# Altium footprint library ecoVENTV.PcbLib: 46 footprints (part 2 of 3)
Each footprint in its own frame and in the unit in brackets; x right, y up, seen from the top. Pads: shape width x height; smd on the part's side, far side on the other; paste and mask are expansions set on the pad; w line width, h text height; cw(c..) or ccw(c..) is an arc to the next point about the centre after c.
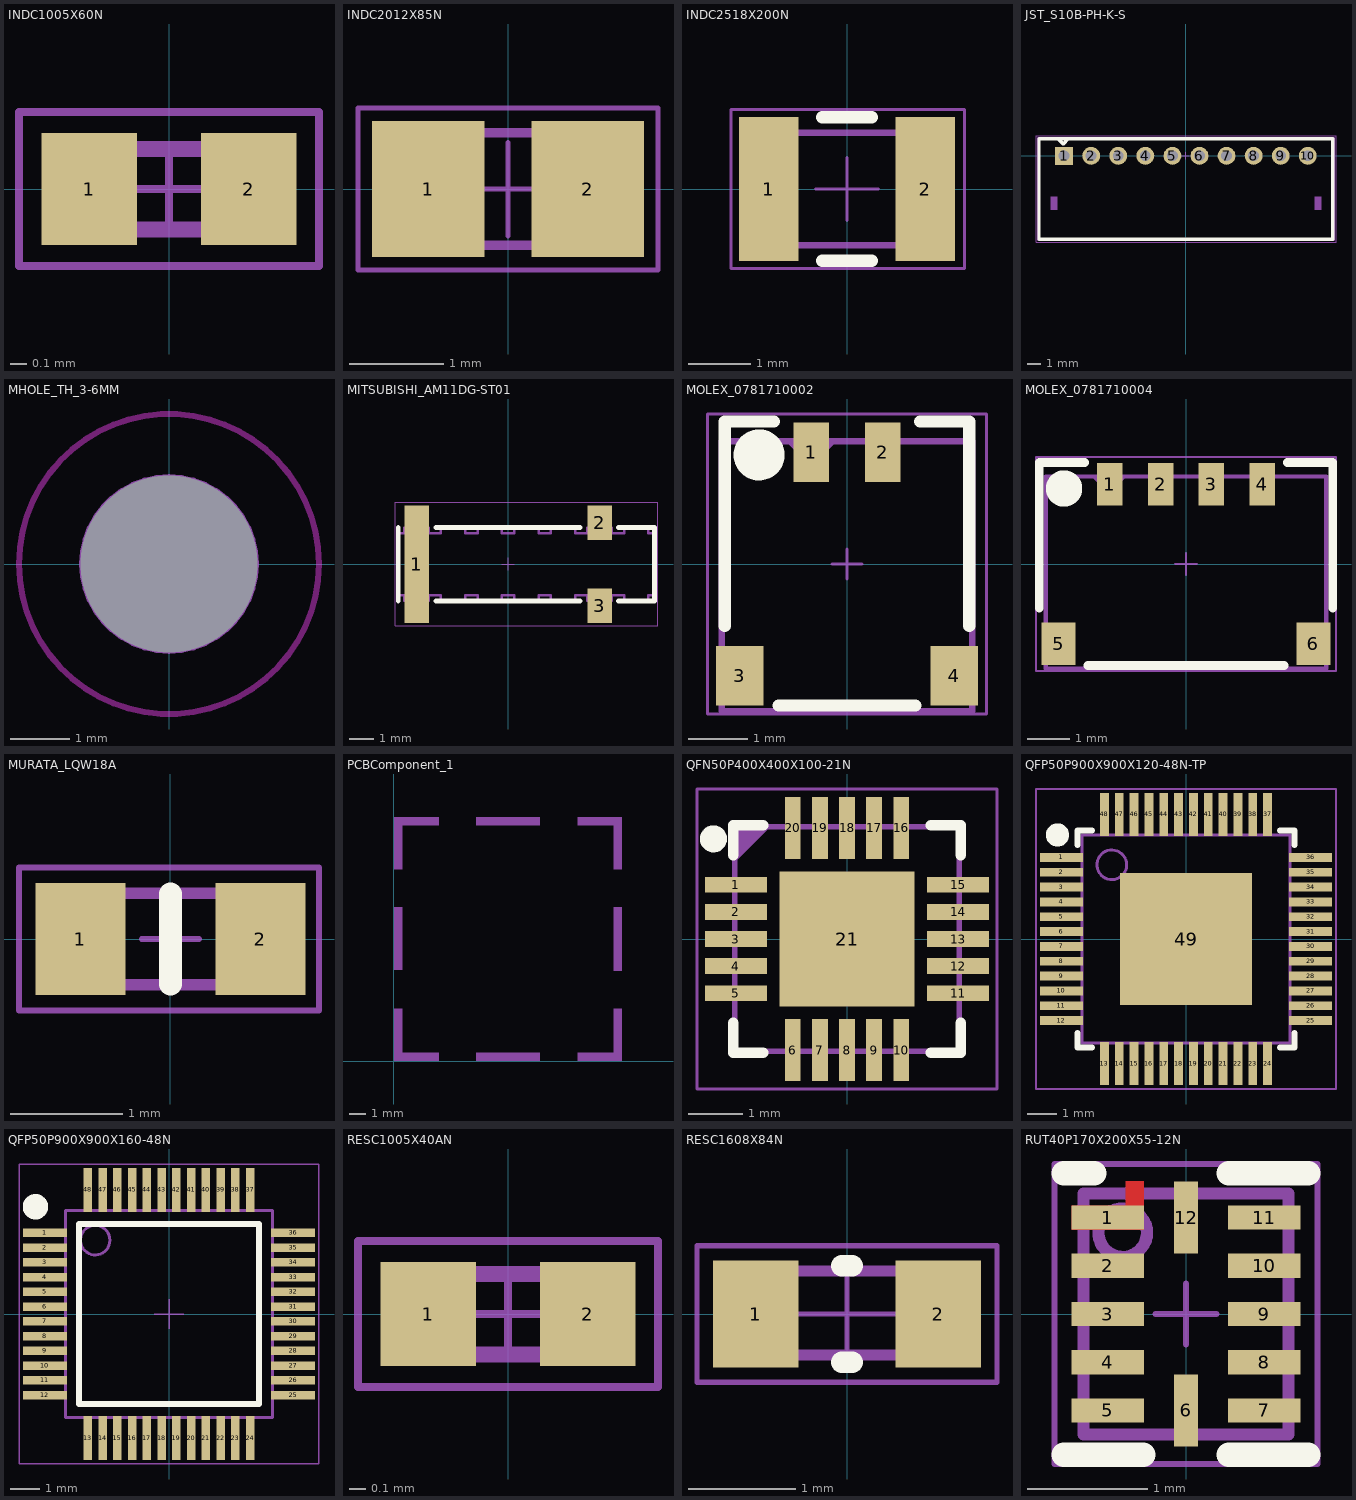
[diagram p1: the footprints below, top view; thin cyan lines are the x and y axes]

## INDC1005X60N [mm]
pads (2):
  rect 0.6x0.7 smd mask+0.051: 1(-0.5,0) 2(0.5,0)
Mechanical 1:
  lines w0.102: -0.508,-0.254 0.5,-0.254 0.5,0.25 -0.508,0.25 -0.508,-0.254
  text ".Designator" at -0.356,-0.127 h0.25
Mechanical 15:
  lines w0.051: -0.25,0 0.25,0 ; 0,-0.25 0,0.25 ; -0.94,-0.483 0.94,-0.483 0.94,0.483 -0.94,0.483 -0.94,-0.483
3D body: height 0.6, standoff 0, extent -0.5,-0.25 0.5,0.25

## INDC2012X85N [mm]
pads (2):
  rect 1.2x1.45 smd mask+0.051: 1(-0.85,0) 2(0.85,0)
Mechanical 1:
  lines w0.102: -1.016,-0.6 1.016,-0.6 1.016,0.6 -1.016,0.6 -1.016,-0.6
  text ".Designator" at -0.813,-0.356 h0.51
Mechanical 15:
  lines w0.051: -0.5,0 0.5,0 ; 0,-0.5 0,0.5 ; -1.6,-0.864 1.6,-0.864 1.6,0.864 -1.6,0.864 -1.6,-0.864
3D body: height 1.3, standoff 0, extent -1,-0.6 1,0.6

## INDC2518X200N [mm]
height 2
pads (2):
  rect 0.95x2.3 smd mask+0.051: 1(-1.25,0) 2(1.25,0)
Top Overlay:
  lines w0.2: -0.4,-1.15 0.4,-1.15 ; -0.4,1.15 0.4,1.15
Mechanical 1:
  lines w0.102: -1.25,-0.9 -1.25,0.9 1.25,0.9 1.25,-0.9 -1.25,-0.9
  text ".Designator" at -0.635,-0.229 h0.51
Mechanical 15:
  lines w0.05: -0.5,0 0.5,0 ; 0,-0.5 0,0.5 ; -1.854,-1.27 -1.854,1.27 1.88,1.27 1.88,-1.27 -1.854,-1.27
3D body: height 2, standoff 0, extent 0.75,-0.9 1.15,0.9
3D body: height 2, standoff 0, extent -1.15,-0.9 -0.75,0.9
3D body: height 2, standoff 0, extent -0.75,-0.9 0.75,0.9

## JST_S10B-PH-K-S [mm]
height 4.8
pads (10):
  rect 1.321x1.321 hole 0.8 mask+0.051: 1(-9,0)
  round 1.321 hole 0.8 mask+0.051: 2(-7,0) 3(-5,0) 4(-3,0) 5(-1,0) 6(1,0) 7(3,0) 8(5,0) 9(7,0) 10(9,0)
Top Overlay:
  lines w0.254: -9.45,1.25 -9.075,0.875 -8.7,1.25 ; -10.85,-6.15 10.854,-6.15 10.854,1.25 -10.85,1.25 -10.85,-6.15
Mechanical 1:
  circle w0.102: c-9,0 r0.397
  region: 9.5,-3 9.5,-4 10,-4 10,-3
  region: -10,-3 -10,-4 -9.5,-4 -9.5,-3
  lines w0.102: -10.95,-6.25 -10.95,1.35 10.95,1.35 10.95,-6.25 -10.95,-6.25
  text ".Designator" at -2.311,-3.531 h0.51
Mechanical 15:
  lines w0.051: -0.254,0 0.254,0 ; 0,-0.254 0,0.254 ; -11.073,-6.375 11.083,-6.375 11.083,1.473 -11.073,1.473 -11.073,-6.375
3D body: height 4.8, standoff -3.4, extent -10.95,-6.248 10.95,1.352

## MHOLE_TH_3-6MM [mm]
pads (1):
  round 0 hole 3 unplated mask+0.051: ""(0,0)
Keep-Out Layer:
  circle w0.102: c0,0 r2.545
Mechanical 1:
  circle w0.102: c0,0 r1.473
  text ".Designator" at -0.533,-0.254 h0.51

## MITSUBISHI_AM11DG-ST01 [mm]
height 0.9
pads (3):
  rect 1x4.8 smd mask+0.051: 1(-3.75,0)
  rect 1x1.4 smd mask+0.051: 2(3.75,1.7) 3(3.75,-1.7)
Top Overlay:
  lines w0.203: -4.5,-1.5 -4.5,1.5 ; -2.946,-1.5 2.946,-1.5 ; -2.946,1.5 2.946,1.5 ; 4.521,-1.5 6,-1.5 6,1.5 4.521,1.5
Mechanical 1:
  lines w0.102: -4.5,-1.275 -4.25,-1.275 -4.25,-1.5 -3.25,-1.5 -3.25,-1.275 -2.75,-1.275 -2.75,-1.5 -1.75,-1.5 -1.75,-1.275 -1.25,-1.275 -1.25,-1.5 -0.25,-1.5 -0.25,-1.275 0.25,-1.275 0.25,-1.5 1.25,-1.5 1.25,-1.275 1.75,-1.275 1.75,-1.5 2.75,-1.5 2.75,-1.275 3.25,-1.275 3.25,-1.5 4.25,-1.5 4.25,-1.275 4.75,-1.275 4.75,-1.5 5.75,-1.5 5.75,-1.275 6,-1.275 6,1.275 5.75,1.275 5.75,1.5 4.75,1.5 4.75,1.275 4.25,1.275 4.25,1.5 3.25,1.5 3.25,1.275 2.75,1.275 2.75,1.5 1.75,1.5 1.75,1.275 1.25,1.275 1.25,1.5 0.25,1.5 0.25,1.275 -0.25,1.275 -0.25,1.5 -1.25,1.5 -1.25,1.275 -1.75,1.275 -1.75,1.5 -2.75,1.5 -2.75,1.275 -3.25,1.275 -3.25,1.5 -4.25,1.5 -4.25,1.275 -4.5,1.275 -4.5,-1.275
  text ".Designator" at 0,-0.152 h0.51
Mechanical 15:
  lines w0.051: -0.254,0 0.254,0 ; 0,-0.254 0,0.254 ; -4.627,-2.519 -4.627,2.535 6.143,2.535 6.143,-2.519 -4.627,-2.519
3D body: height 0.6, standoff 0.2, extent -4.5,-1.275 6,1.275
3D body: height 0.8, standoff 0, extent 3.25,-1.5 5.75,1.5
3D body: height 0.8, standoff 0, extent 1.75,-1.5 4.25,1.5
3D body: height 0.8, standoff 0, extent 0.25,-1.5 2.75,1.5
3D body: height 0.8, standoff 0, extent -1.25,-1.5 1.25,1.5
3D body: height 0.8, standoff 0, extent -2.75,-1.5 -0.25,1.5
3D body: height 0.8, standoff 0, extent -4.25,-1.5 -1.75,1.5

## MOLEX_0781710002 [mm]
height 1.4
pads (4):
  rect 0.6x1 smd: 1(-0.6,1.875) 2(0.6,1.875)
  rect 0.8x1 smd: 3(-1.8,-1.875) 4(1.8,-1.875)
Top Overlay:
  circle w0.5: c-1.473,1.829 r0.178
  lines w0.203: -2.05,-1.041 -2.05,2.388 -1.225,2.388 ; -1.15,-2.375 1.15,-2.375 ; 1.225,2.388 2.05,2.388 2.05,-1.041
Mechanical 1:
  lines w0.102: -0.95,2.05 -0.6,1.7 -0.25,2.05 ; -2.1,-2.464 2.1,-2.464 2.1,2.057 -2.1,2.057 -2.1,-2.464
  text ".Designator" at -1.1,-0.125 h0.51
Mechanical 15:
  lines w0.051: -0.254,0 0.254,0 ; 0,-0.254 0,0.254 ; -2.337,-2.515 2.337,-2.515 2.337,2.515 -2.337,2.515 -2.337,-2.515
3D body: height 1.45, standoff 0, extent -2.1,-2.453 2.1,2.077

## MOLEX_0781710004 [mm]
height 1.4
pads (6):
  rect 0.6x1 smd: 1(-1.8,1.875) 2(-0.6,1.875) 3(0.6,1.875) 4(1.8,1.875)
  rect 0.8x1 smd: 5(-3,-1.875) 6(3,-1.875)
Top Overlay:
  circle w0.5: c-2.87,1.778 r0.178
  lines w0.203: -3.454,-1.041 -3.454,2.388 -2.388,2.388 ; -2.311,-2.388 2.311,-2.388 ; 2.388,2.388 3.454,2.388 3.454,-1.041
Mechanical 1:
  lines w0.102: -2.159,2.057 -1.809,1.707 -1.459,2.057 ; -3.3,-2.464 3.3,-2.464 3.3,2.057 -3.3,2.057 -3.3,-2.464
  text ".Designator" at -1.1,-0.125 h0.51
Mechanical 15:
  lines w0.051: -0.254,0 0.254,0 ; 0,-0.254 0,0.254 ; -3.531,-2.515 3.531,-2.515 3.531,2.515 -3.531,2.515 -3.531,-2.515
3D body: height 1.45, standoff 0, extent -3.3,-2.479 3.3,2.051

## MURATA_LQW18A [mm]
height 1
pads (2):
  rect 0.8x1 smd mask+0.051: 1(-0.8,0) 2(0.8,0)
Top Overlay:
  lines w0.203: 0,-0.4 0,0.4
Mechanical 1:
  lines w0.102: -0.79,-0.406 0.79,-0.406 0.79,0.406 -0.79,0.406 -0.79,-0.406
  text ".Designator" at -0.66,-0.229 h0.51
Mechanical 15:
  lines w0.051: -0.254,0 0.254,0 ; 0,-0.254 0,0.254 ; -1.346,-0.635 1.321,-0.635 1.321,0.635 -1.346,0.635 -1.346,-0.635
3D body: height 0.81, standoff 0, extent -0.8,-0.45 0.8,0.45

## PCBComponent_1 [mm]
Mechanical 5:
  region: 2.66,0 2.66,0.5 0,0.5 0,0
  rectangle: 13.01,0 13.51,3.13
  rectangle: 13.01,5.33 13.51,9.13
  rectangle: 13.01,11.33 13.51,14.46
  region: 2.66,13.96 2.66,14.46 0,14.46 0,13.96
  region: 8.66,13.96 8.66,14.46 4.86,14.46 4.86,13.96
  region: 13.51,13.96 13.51,14.46 10.86,14.46 10.86,13.96
  rectangle: 0,11.33 0.5,14.46
  rectangle: 0,5.388 0.5,9.13
  region: 13.51,0 13.51,0.5 10.86,0.5 10.86,0
  region: 8.66,0 8.66,0.5 4.86,0.5 4.86,0
  rectangle: 0,0 0.5,3.12

## QFN50P400X400X100-21N [mm]
pads (21):
  rect 1.15x0.29 smd mask+0.051: 1(-2.05,1) 2(-2.05,0.5) 3(-2.05,0) 4(-2.05,-0.5) 5(-2.05,-1) 11(2.05,-1) 12(2.05,-0.5) 13(2.05,0) 14(2.05,0.5) 15(2.05,1)
  rect 0.29x1.15 smd mask+0.051: 6(-1,-2.05) 7(-0.5,-2.05) 8(0,-2.05) 9(0.5,-2.05) 10(1,-2.05) 16(1,2.05) 17(0.5,2.05) 18(0,2.05) 19(-0.5,2.05) 20(-1,2.05)
  rect 2.5x2.5 smd mask+0.051: 21(0,0)
Top Overlay:
  circle w0.25: c-2.464,1.849 r0.125
  lines w0.2: -2.1,-1.55 -2.1,-2.1 -1.55,-2.1 ; -2.1,1.55 -2.1,2.1 -1.55,2.1 ; 1.55,-2.1 2.1,-2.1 2.1,-1.55 ; 1.55,2.1 2.1,2.1 2.1,1.55
Top Paste:
  region: -0.75,0.75 0.75,0.75 0.75,-0.75 -0.75,-0.75
Mechanical 1:
  lines w0.102: -2.075,1.475 -1.475,2.075 ; -2.075,1.575 -1.575,2.075 ; -2.075,1.675 -1.675,2.075 ; -2.075,1.775 -1.775,2.075 ; -2.075,1.875 -1.875,2.075 ; -2.075,1.975 -1.975,2.075 ; -2.075,-2.075 -2.075,2.075 2.075,2.075 2.075,-2.075 -2.075,-2.075
  text ".Designator" at -0.556,-0.157 h0.51
Mechanical 15:
  lines w0.05: -0.5,0 0.5,0 ; 0,-0.5 0,0.5 ; -2.769,-2.769 -2.769,2.769 2.769,2.769 2.769,-2.769 -2.769,-2.769
3D body: height 0.78, standoff -0.02, extent -2.01,-2.01 2.01,2.01

## QFP50P900X900X120-48N-TP [mm]
height 1.2
pads (49):
  rect 1.45x0.3 smd: 1(-4.2,2.75) 2(-4.2,2.25) 3(-4.2,1.75) 4(-4.2,1.25) 5(-4.2,0.75) 6(-4.2,0.25) 7(-4.2,-0.25) 8(-4.2,-0.75) 9(-4.2,-1.25) 10(-4.2,-1.75) 11(-4.2,-2.25) 12(-4.2,-2.75) 25(4.2,-2.75) 26(4.2,-2.25) 27(4.2,-1.75) 28(4.2,-1.25) 29(4.2,-0.75) 30(4.2,-0.25) 31(4.2,0.25) 32(4.2,0.75) 33(4.2,1.25) 34(4.2,1.75) 35(4.2,2.25) 36(4.2,2.75)
  rect 0.3x1.45 smd: 13(-2.75,-4.2) 14(-2.25,-4.2) 15(-1.75,-4.2) 16(-1.25,-4.2) 17(-0.75,-4.2) 18(-0.25,-4.2) 19(0.25,-4.2) 20(0.75,-4.2) 21(1.25,-4.2) 22(1.75,-4.2) 23(2.25,-4.2) 24(2.75,-4.2) 37(2.75,4.2) 38(2.25,4.2) 39(1.75,4.2) 40(1.25,4.2) 41(0.75,4.2) 42(0.25,4.2) 43(-0.25,4.2) 44(-0.75,4.2) 45(-1.25,4.2) 46(-1.75,4.2) 47(-2.25,4.2) 48(-2.75,4.2)
  rect 4.45x4.45 smd: 49(0,0)
Top Overlay:
  lines w0.203: -3.658,-3.175 -3.658,-3.658 -3.175,-3.658 ; -3.658,3.175 -3.658,3.658 -3.175,3.658 ; 3.175,-3.658 3.658,-3.658 3.658,-3.175 ; 3.175,3.658 3.658,3.658 3.658,3.175
  lines w0.4: -4.141,3.506 cw(c-4.331,3.505) -4.141,3.508
Mechanical 1:
  circle w0.102: c-2.5,2.5 r0.5
  lines w0.102: -3.5,-3.5 -3.5,3.5 3.5,3.5 3.5,-3.5 -3.5,-3.5
  text ".Designator" at -0.993,-0.45 h0.51
Mechanical 15:
  lines w0.051: -0.254,0 0.254,0 ; 0,-0.254 0,0.254 ; -5.055,-5.055 -5.055,5.055 5.055,5.055 5.055,-5.055 -5.055,-5.055
3D body: height 1.1, standoff 0, extent -4.509,-4.509 4.509,4.509

## QFP50P900X900X160-48N [mm]
pads (48):
  rect 1.5x0.29 smd mask+0.051: 1(-4.2,2.75) 2(-4.2,2.25) 3(-4.2,1.75) 4(-4.2,1.25) 5(-4.2,0.75) 6(-4.2,0.25) 7(-4.2,-0.25) 8(-4.2,-0.75) 9(-4.2,-1.25) 10(-4.2,-1.75) 11(-4.2,-2.25) 12(-4.2,-2.75) 25(4.2,-2.75) 26(4.2,-2.25) 27(4.2,-1.75) 28(4.2,-1.25) 29(4.2,-0.75) 30(4.2,-0.25) 31(4.2,0.25) 32(4.2,0.75) 33(4.2,1.25) 34(4.2,1.75) 35(4.2,2.25) 36(4.2,2.75)
  rect 0.29x1.5 smd mask+0.051: 13(-2.75,-4.2) 14(-2.25,-4.2) 15(-1.75,-4.2) 16(-1.25,-4.2) 17(-0.75,-4.2) 18(-0.25,-4.2) 19(0.25,-4.2) 20(0.75,-4.2) 21(1.25,-4.2) 22(1.75,-4.2) 23(2.25,-4.2) 24(2.75,-4.2) 37(2.75,4.2) 38(2.25,4.2) 39(1.75,4.2) 40(1.25,4.2) 41(0.75,4.2) 42(0.25,4.2) 43(-0.25,4.2) 44(-0.75,4.2) 45(-1.25,4.2) 46(-1.75,4.2) 47(-2.25,4.2) 48(-2.75,4.2)
Top Overlay:
  circle w0.508: c-4.521,3.632 r0.177
  lines w0.2: -3.05,-3.05 3.05,-3.05 3.05,3.05 -3.05,3.05 -3.05,-3.05
Mechanical 1:
  circle w0.102: c-2.5,2.5 r0.5
  lines w0.102: -3.5,-3.5 3.5,-3.5 3.5,3.5 -3.5,3.5 -3.5,-3.5
  text ".Designator" at -0.508,-0.076 h0.51
Mechanical 15:
  lines w0.05: -0.5,0 0.5,0 ; 0,-0.5 0,0.5 ; -5.08,-5.08 5.08,-5.08 5.08,5.08 -5.08,5.08 -5.08,-5.08
3D body: height 1.5, standoff 0, extent -4.5,-4.5 4.5,4.5

## RESC1005X40AN [mm]
pads (2):
  rect 0.6x0.65 smd mask+0.051: 1(-0.5,0) 2(0.5,0)
Mechanical 1:
  lines w0.102: -0.5,-0.254 -0.5,0.25 0.5,0.25 0.5,-0.254 -0.5,-0.254
  text ".Designator" at -0.356,-0.102 h0.25
Mechanical 15:
  lines w0.051: -0.25,0 0.25,0 ; 0,-0.25 0,0.25 ; -0.94,-0.457 -0.94,0.457 0.94,0.457 0.94,-0.457 -0.94,-0.457
3D body: height 0.35, standoff 0, extent -0.5,-0.25 0.5,0.25

## RESC1608X84N [mm]
pads (2):
  rect 0.8x1 smd mask+0.051: 1(-0.85,0) 2(0.85,0)
Top Overlay:
  lines w0.2: -0.05,-0.45 0.05,-0.45 ; -0.05,0.45 0.05,0.45
Mechanical 1:
  lines w0.102: -0.787,-0.381 0.813,-0.381 0.813,0.4 -0.787,0.4 -0.787,-0.381
  text ".Designator" at -0.635,-0.229 h0.51
Mechanical 15:
  lines w0.051: -0.5,0 0.5,0 ; 0,-0.5 0,0.5 ; -1.397,-0.635 1.397,-0.635 1.397,0.635 -1.397,0.635 -1.397,-0.635
3D body: height 0.45, standoff 0, extent -0.8,-0.4 0.8,0.4

## RUT40P170X200X55-12N [mm]
height 0.55
pads (12):
  rect 0.6x0.2 smd paste-0.5: 1(-0.65,0.8) 2(-0.65,0.4) 3(-0.65,0) 4(-0.65,-0.4) 5(-0.65,-0.8) 7(0.65,-0.8) 8(0.65,-0.4) 9(0.65,0) 10(0.65,0.4) 11(0.65,0.8)
  rect 0.2x0.6 smd paste-0.5: 6(0,-0.8) 12(0,0.8)
Top Layer:
  region: -0.95,0.9 -0.95,0.7 -0.35,0.7 -0.35,1.1 -0.5,1.1 -0.5,0.9
Top Overlay:
  lines w0.203: -1.016,-1.168 -0.356,-1.168 ; -1.016,1.168 -0.762,1.168 ; 0.356,-1.168 1.016,-1.168 ; 0.356,1.168 1.016,1.168
Top Paste:
  region: 0.1,-1 0.1,-0.5 -0.1,-0.5 -0.1,-1
  region: 0.1,0.5 0.1,1 -0.1,1 -0.1,0.5
  rectangle: 0.35,0.7 0.85,0.9
  rectangle: 0.35,0.3 0.85,0.5
  rectangle: 0.35,-0.1 0.85,0.1
  rectangle: 0.35,-0.5 0.85,-0.3
  rectangle: 0.35,-0.9 0.85,-0.7
  rectangle: -0.85,0.3 -0.35,0.5
  rectangle: -0.85,-0.1 -0.35,0.1
  rectangle: -0.85,-0.5 -0.35,-0.3
  rectangle: -0.85,-0.9 -0.35,-0.7
  region: -0.85,0.9 -0.85,0.7 -0.35,0.7 -0.35,1 -0.5,1 -0.5,0.9
Mechanical 1:
  circle w0.102: c-0.525,0.675 r0.202
  lines w0.102: -0.85,-1 0.85,-1 0.85,1 -0.85,1 -0.85,-1
  text ".Designator" at -0.125,0.6 h0.51
Mechanical 15:
  lines w0.051: -0.254,0 0.254,0 ; 0,-0.254 0,0.254 ; -1.092,-1.245 1.092,-1.245 1.092,1.245 -1.092,1.245 -1.092,-1.245
3D body: height 0.13, standoff 0, extent -0.1,-1 0.1,-0.5
3D body: height 0.13, standoff 0, extent -0.1,0.5 0.1,1
3D body: height 0.13, standoff 0, extent 0.35,0.7 0.85,0.9
3D body: height 0.13, standoff 0, extent 0.35,0.3 0.85,0.5
3D body: height 0.13, standoff 0, extent 0.35,-0.1 0.85,0.1
3D body: height 0.13, standoff 0, extent 0.35,-0.5 0.85,-0.3
3D body: height 0.13, standoff 0, extent 0.35,-0.9 0.85,-0.7
3D body: height 0.13, standoff 0, extent -0.85,-0.9 -0.35,-0.7
3D body: height 0.13, standoff 0, extent -0.85,-0.5 -0.35,-0.3
3D body: height 0.13, standoff 0, extent -0.85,-0.1 -0.35,0.1
3D body: height 0.13, standoff 0, extent -0.85,0.3 -0.35,0.5
3D body: height 0.13, standoff 0, extent -0.85,0.7 -0.35,1
3D body: height 0.55, standoff 0.05, extent -0.825,-0.975 0.825,0.975